# Altium schematic symbol library MBR5100MFS-SO8.SchLib: 1 symbol
Pins are listed as number, name and electrical type; pins without a type are passive.

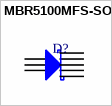
[diagram p0: symbol MBR5100MFS-SO8]

## MBR5100MFS-SO8
designator D?  (value not drawn)
pins: 1 A, 2 A, 3 A, 5 K, 5 K, 6 K, 7 K, 8 K